# Altium integrated library TPS63070RNMR.IntLib: 1 symbol
Pins are listed as number, name and electrical type; pins without a type are passive.

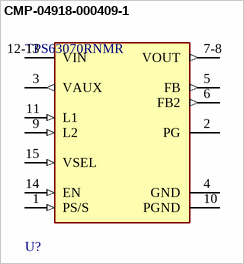
[diagram p0: symbol CMP-04918-000409-1]

## CMP-04918-000409-1
designator U?, comment TPS63070RNMR
IC REG BCK BST ADJ 3.6A 15VQFN; Synchronous Rectifier: Yes; Output Type: Adjustable; Output Current: 2A; Max Input Voltage: 16V; Switching Frequency: 2.4MHz; Min Output Voltage: 2.5V; Output Configuration: Positive; Min Input Voltage: 2V; Topology: Buck-Boost; Number of Outputs: 1; Max Output Voltage: 9V; Quiescent Current: 50uA; Max Operating Temperature: 125°C; Case/Package: VQFN; Number of Pins: 15; RoHS Compliant: Yes; Mount: Surface Mount; Min Operating Temperature: -40°C; Lead Free: Lead Free; Packaging: Tape and Reel
footprint FP-RNM0015A-MFG
pins: 1 PS/S (in), 2 PG (oc), 3 VAUX (out), 4 GND (power), 5 FB (out), 6 FB2 (out), 7-8 VOUT (out), 9 L2 (in), 10 PGND (power), 11 L1 (in), 12-13 VIN (power), 14 EN (in), 15 VSEL (in)